# Altium schematic symbol library B2B-XH-AM_LF__SN_.SchLib: 1 symbol
Pins are listed as number, name and electrical type; pins without a type are passive.

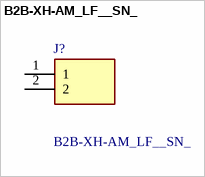
[diagram p0: symbol B2B-XH-AM_LF__SN_]

## B2B-XH-AM_LF__SN_
designator J?
CONN HEADER VERT 2POS 2.5MM; Manufacturer_Name: JST (JAPAN SOLDERLESS TERMINALS); Manufacturer_Part_Number: B2B-XH-AM(LF)(SN); Geometry.Height: 7mm; Mouser Part Number: *; Mouser Price/Stock: *; Arrow Part Number: B2B-XH-AM(LF)(SN); Arrow Price/Stock: https://www.arrow.com/en/products/b2b-xh-am-lf-sn/jst-manufacturing?region=europe; Datasheet Link: https://www.jst-mfg.com/product/pdf/eng/eXH.pdf
footprint B2BXHAMLFSN
pins: 1, 2